# Altium schematic symbol library IC.SchLib: 69 symbols
Pins are listed as number, name and electrical type; pins without a type are passive.

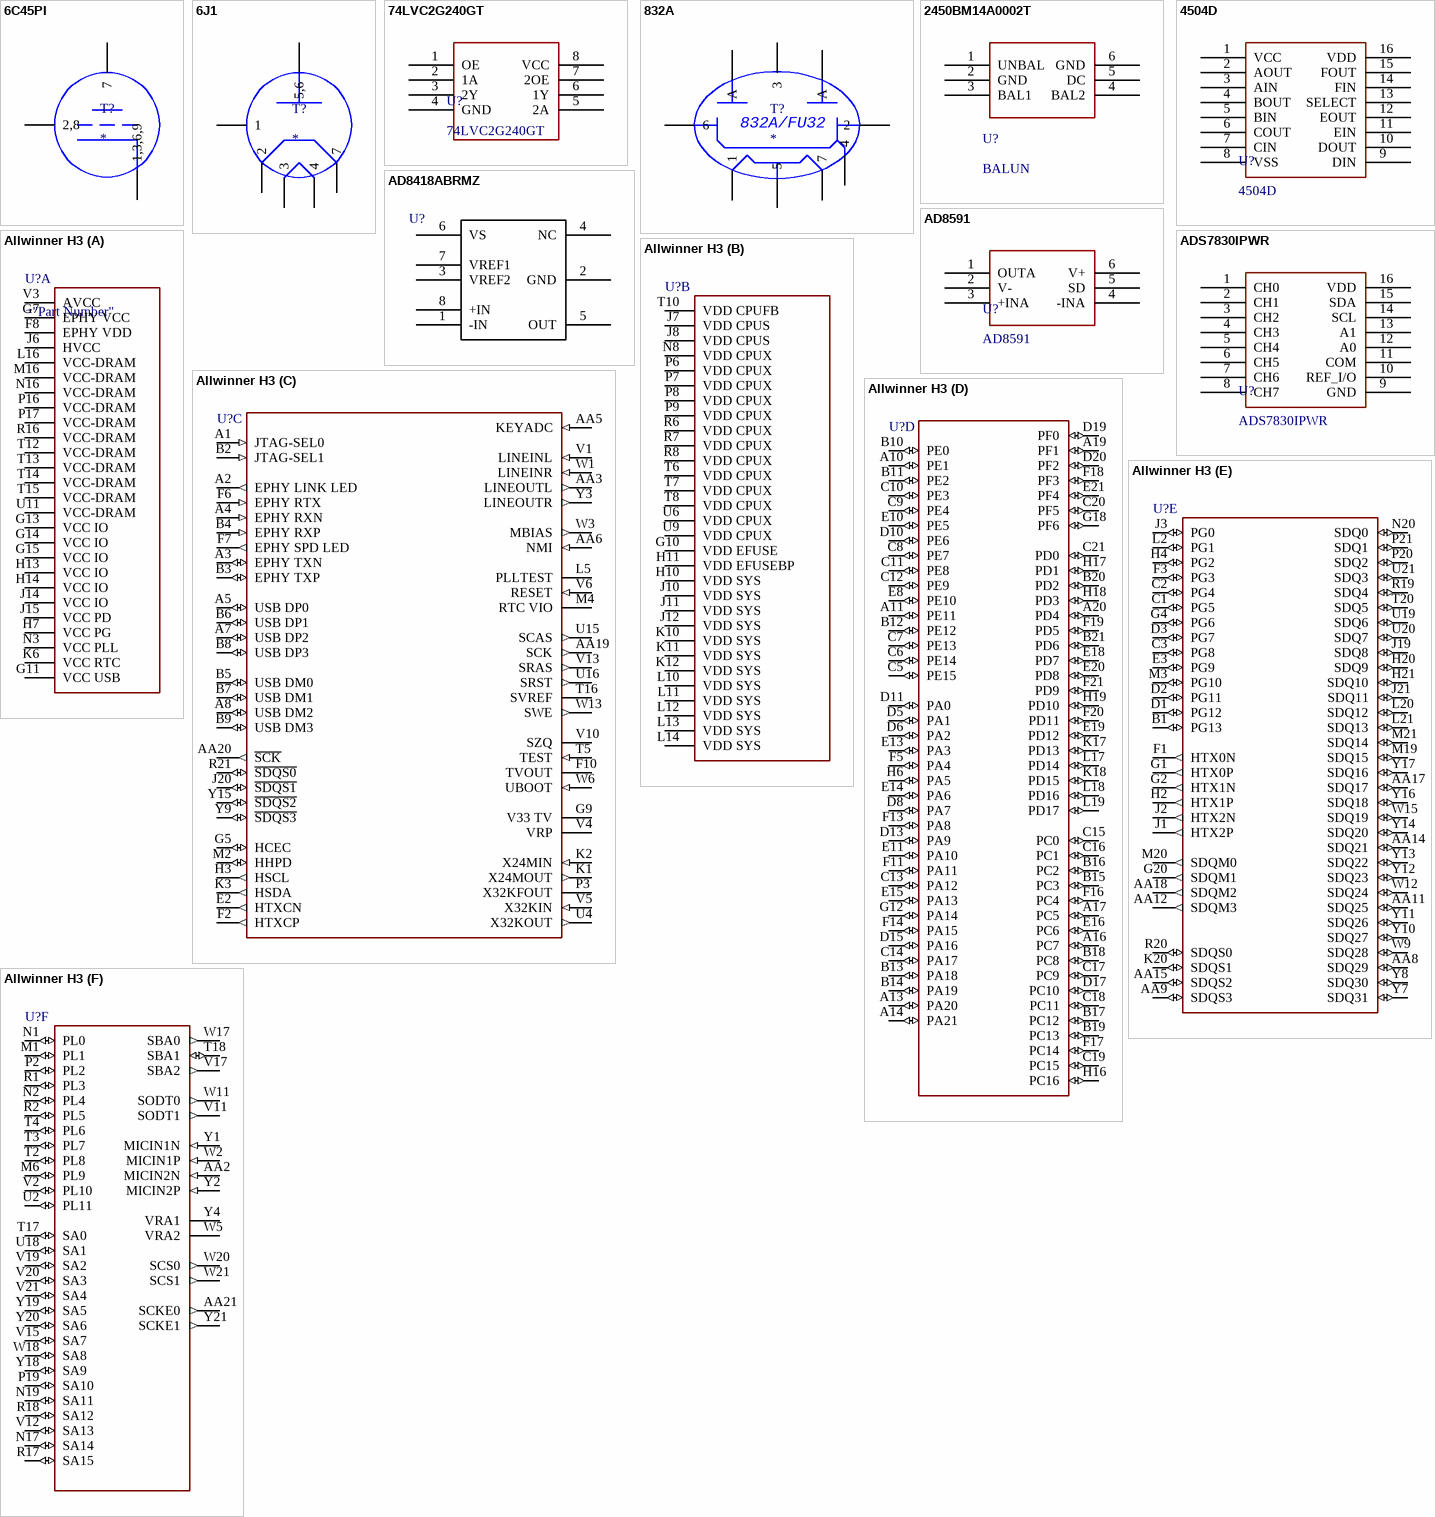
[diagram p0: symbols 6C45PI to Allwinner H3]

## 6C45PI
designator T?
pins: 1 1,3,6,9, 2 2,8, 3 hidden, 6 hidden, 7, 8 hidden, 9 hidden

## 6J1
designator T?
footprint 6J1
pins: 1, 2, 3, 4, 5 5,6, 6 hidden, 7

## 74LVC2G240GT
designator U?
footprint 74LVC2G240GT
pins: 1 OE, 2 1A, 3 2Y, 4 GND, 5 2A, 6 1Y, 7 2OE, 8 VCC

## 832A
designator T?
footprint 832A/FU32
pins: 1, 2, 3, 4, 5, 6, 7, A, A
text: 832A/FU32

## 2450BM14A0002T
designator U?, comment BALUN
BALUN FILTER  2.4G
footprint 2450BM14A0002T (BALUN FILTER)
pins: 1 UNBAL, 2 GND, 3 BAL1, 4 BAL2, 5 DC, 6 GND

## 4504D
designator U?
footprint SOP_E150_16
footprint TSSOP_E170_P0.65_16
pins: 1 VCC, 2 AOUT, 3 AIN, 4 BOUT, 5 BIN, 6 COUT, 7 CIN, 8 VSS, 9 DIN, 10 DOUT, 11 EIN, 12 EOUT, 13 SELECT, 14 FIN, 15 FOUT, 16 VDD

## AD8418ABRMZ
designator U?  (value not drawn)
Analog Devices Current Sense Amplifiers; Vendor: Analog Devices Inc; Built_By: EMA_UL_Team; SourceLibrary: Analog_2015-12-15; Manufacturer_Part_Number: AD8418ABRMZ; Copyright: Copyright (C) 2018 Accelerated Designs. All rights reserved; RefDes: RefDes; Type: DEV
footprint AD8418
pins: 1 -IN, 2 GND, 3 VREF2, 4 NC, 5 OUT, 6 VS, 7 VREF1, 8 +IN

## AD8591
designator U?
footprint SOT23-6
pins: 1 OUTA, 2 V-, 3 +INA, 4 -INA, 5 SD, 6 V+

## ADS7830IPWR
designator U?
AD
footprint TSSOP_E170_P0.65_16
pins: 1 CH0, 2 CH1, 3 CH2, 4 CH3, 5 CH4, 6 CH5, 7 CH6, 8 CH7, 9 GND, 10 REF_I/O, 11 COM, 12 A0, 13 A1, 14 SCL, 15 SDA, 16 VDD

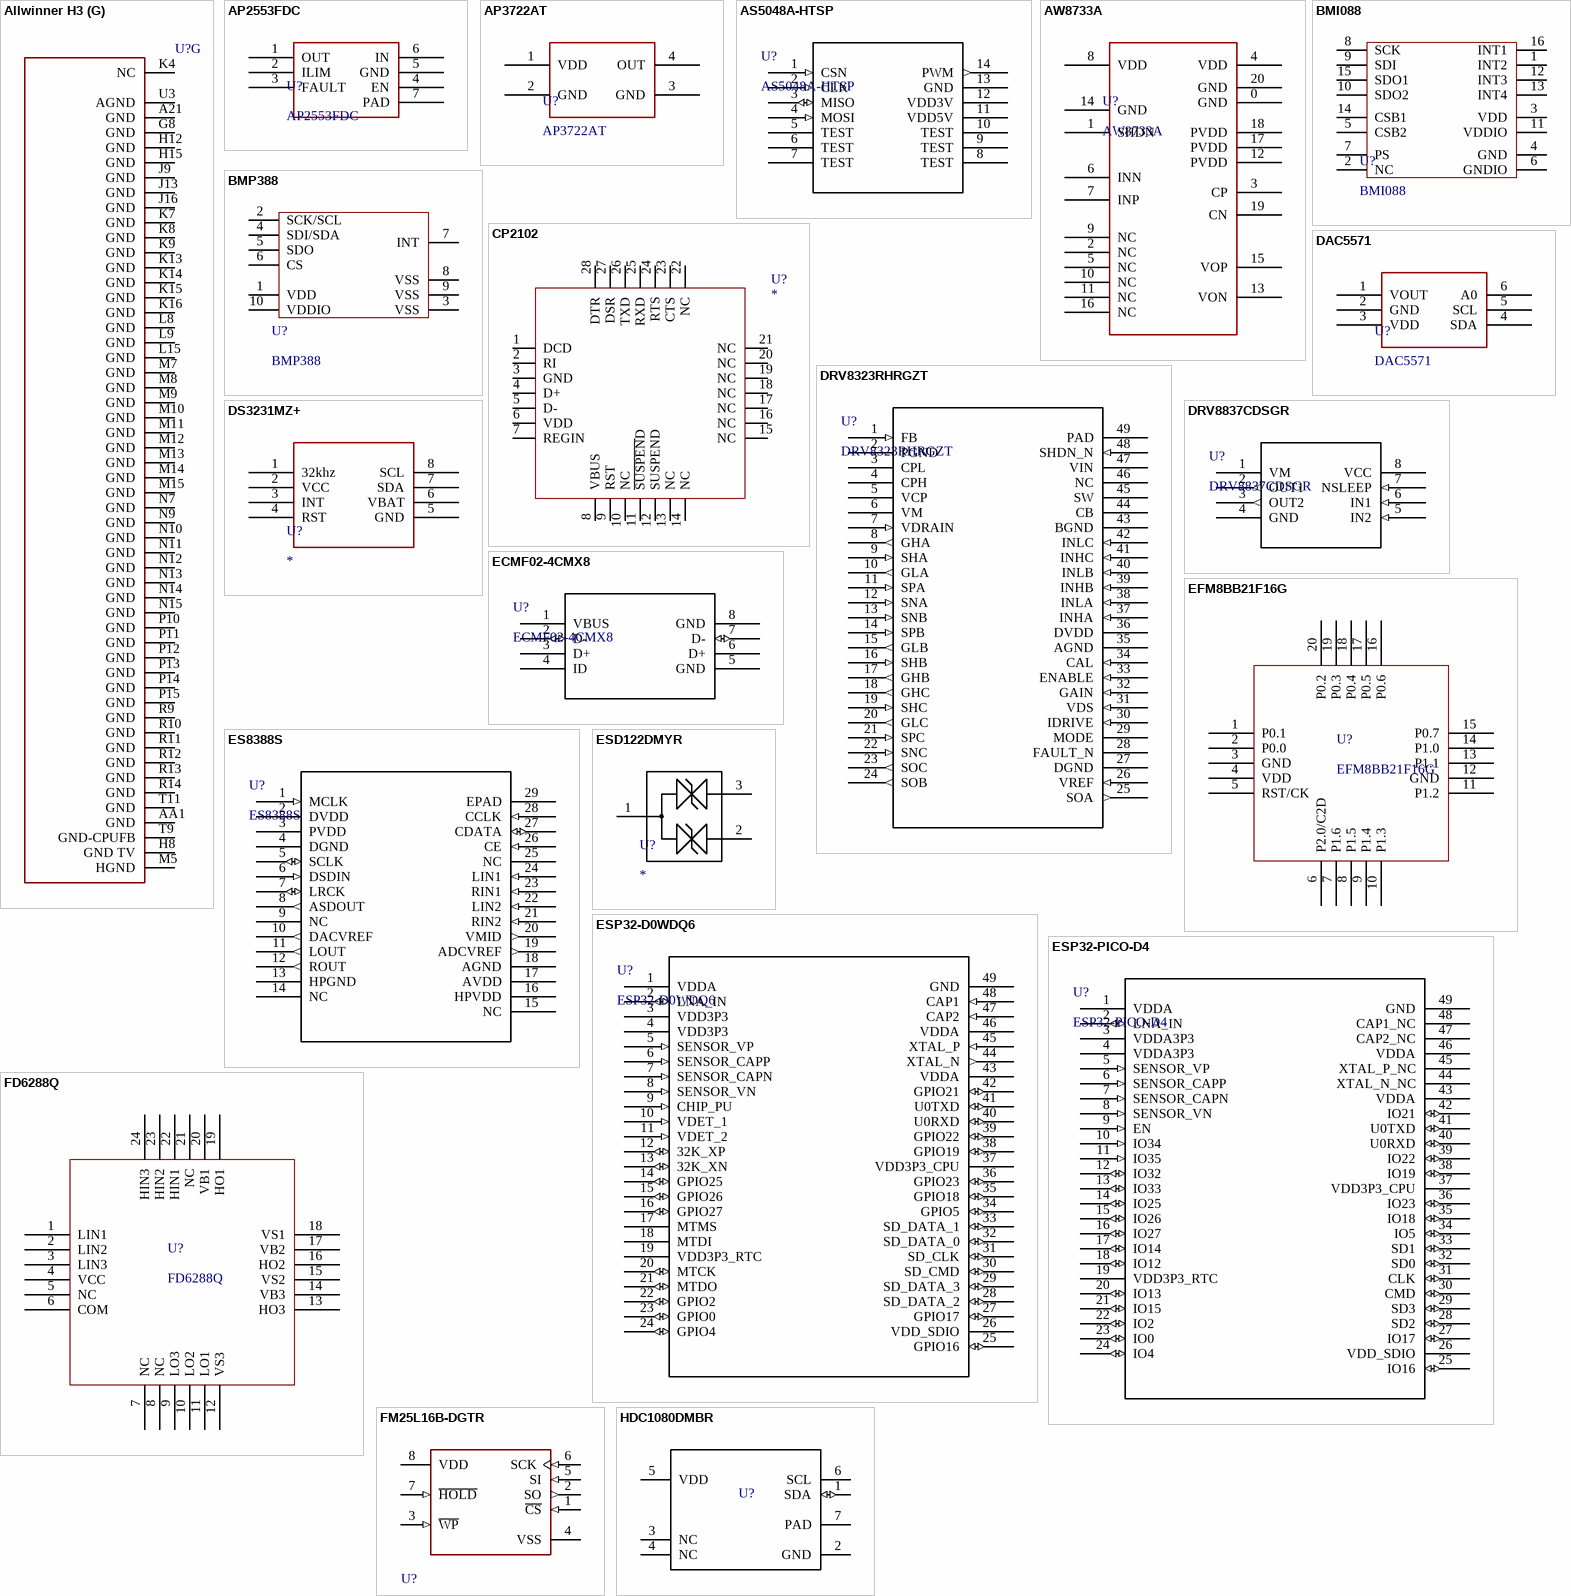
[diagram p1: symbols Allwinner H3 to HDC1080DMBR]

## Allwinner H3
designator U?  (value not drawn)
footprint Allwinner_Technology_H3_IPC_C
part A pins: F8 EPHY VDD (power), G7 EPHY VCC (power), G11 VCC USB (power), G13 VCC IO (power), G14 VCC IO (power), G15 VCC IO (power), H7 VCC PG (power), H13 VCC IO (power), H14 VCC IO (power), J6 HVCC (power), J14 VCC IO (power), J15 VCC PD (power), K6 VCC RTC (power), L16 VCC-DRAM (power), M16 VCC-DRAM (power), N3 VCC PLL (power), N16 VCC-DRAM (power), P16 VCC-DRAM (power), P17 VCC-DRAM (power), R16 VCC-DRAM (power), T12 VCC-DRAM (power), T13 VCC-DRAM (power), T14 VCC-DRAM (power), T15 VCC-DRAM (power), U11 VCC-DRAM (power), V3 AVCC (power)
part B pins: G10 VDD EFUSE (power), H10 VDD SYS (power), H11 VDD EFUSEBP (power), J7 VDD CPUS (power), J8 VDD CPUS (power), J10 VDD SYS (power), J11 VDD SYS (power), J12 VDD SYS (power), K10 VDD SYS (power), K11 VDD SYS (power), K12 VDD SYS (power), L10 VDD SYS (power), L11 VDD SYS (power), L12 VDD SYS (power), L13 VDD SYS (power), L14 VDD SYS (power), N8 VDD CPUX (power), P6 VDD CPUX (power), P7 VDD CPUX (power), P8 VDD CPUX (power), P9 VDD CPUX (power), R6 VDD CPUX (power), R7 VDD CPUX (power), R8 VDD CPUX (power), T6 VDD CPUX (power), T7 VDD CPUX (power), T8 VDD CPUX (power), T10 VDD CPUFB (power), U6 VDD CPUX (power), U9 VDD CPUX (power)
part C pins: A1 JTAG-SEL0 (in), A2 EPHY LINK LED (out), A3 EPHY TXN (io), A4 EPHY RXN (in), A5 USB DP0 (io), A7 USB DP2 (io), A8 USB DM2 (io), AA3 LINEOUTL (out), AA5 KEYADC (in), AA6 NMI (in), AA19 SCK (out), AA20 ~{SCK} (out), B2 JTAG-SEL1 (in), B3 EPHY TXP (io), B4 EPHY RXP (in), B5 USB DM0 (io), B6 USB DP1 (io), B7 USB DM1 (io), B8 USB DP3 (io), B9 USB DM3 (io), E2 HTXCN (out), F2 HTXCP (out), F6 EPHY RTX (in), F7 EPHY SPD LED (out), F10 TVOUT, G5 HCEC (io), G9 V33 TV (power), H3 HSCL (out), J20 ~{SDQS1} (io), K1 X24MOUT (out), K2 X24MIN (in), K3 HSDA (out), L5 PLLTEST, M2 HHPD (io), M4 RTC VIO (power), P3 X32KFOUT (oc), R21 ~{SDQS0} (io), T5 TEST (in), T16 SVREF (power), U4 X32KOUT (out), U15 SCAS (out), U16 SRST (out), V1 LINEINL (in), V4 VRP (power), V5 X32KIN (in), V6 RESET (in), V10 SZQ, V13 SRAS (out), W1 LINEINR (in), W3 MBIAS (out), W6 UBOOT (in), W13 SWE (out), Y3 LINEOUTR (out), Y9 ~{SDQS3} (io), Y15 ~{SDQS2} (io)
part D pins: A10 PE1 (io), A11 PE11 (io), A13 PA20 (io), A14 PA21 (io), A16 PC7 (io), A17 PC5 (io), A19 PF1 (io), A20 PD4 (io), B10 PE0 (io), B11 PE2 (io), B12 PE12 (io), B13 PA18 (io), B14 PA19 (io), B15 PC3 (io), B16 PC2 (io), B17 PC12 (io), B18 PC8 (io), B19 PC13 (io), B20 PD2 (io), B21 PD6 (io), C5 PE15 (io), C6 PE14 (io), C7 PE13 (io), C8 PE7 (io), C9 PE4 (io), C10 PE3 (io), C11 PE8 (io), C12 PE9 (io), C13 PA12 (io), C14 PA17 (io), C15 PC0 (io), C16 PC1 (io), C17 PC9 (io), C18 PC11 (io), C19 PC15 (io), C20 PF5 (io), C21 PD0 (io), D5 PA1 (io), D6 PA2 (io), D8 PA7 (io), D10 PE6 (io), D11 PA0 (io), D13 PA9 (io), D15 PA16 (io), D17 PC10 (io), D19 PF0 (io), D20 PF2 (io), E8 PE10 (io), E10 PE5 (io), E11 PA10 (io), E13 PA3 (io), E14 PA6 (io), E15 PA13 (io), E16 PC6 (io), E18 PD7 (io), E19 PD12 (io), E20 PD8 (io), E21 PF4 (io), F5 PA4 (io), F11 PA11 (io), F13 PA8 (io), F14 PA15 (io), F16 PC4 (io), F17 PC14 (io), F18 PF3 (io), F19 PD5 (io), F20 PD11 (io), F21 PD9 (io), G12 PA14 (io), G18 PF6 (io), H6 PA5 (io), H16 PC16 (io), H17 PD1 (io), H18 PD3 (io), H19 PD10 (io), K17 PD13 (io), K18 PD15 (io), L17 PD14 (io), L18 PD16 (io), L19 PD17 (io)
part E pins: AA8 SDQ29 (io), AA9 SDQS3 (io), AA11 SDQ25 (io), AA12 SDQM3 (out), AA14 SDQ21 (io), AA15 SDQS2 (io), AA17 SDQ17 (io), AA18 SDQM2 (out), B1 PG13 (io), C1 PG5 (io), C2 PG4 (io), C3 PG8 (io), D1 PG12 (io), D2 PG11 (io), D3 PG7 (io), E3 PG9 (io), F1 HTX0N (out), F3 PG3 (io), G1 HTX0P (out), G2 HTX1N (out), G4 PG6 (io), G20 SDQM1 (out), H2 HTX1P (out), H4 PG2 (io), H20 SDQ9 (io), H21 SDQ10 (io), J1 HTX2P (out), J2 HTX2N (out), J3 PG0 (io), J19 SDQ8 (io), J21 SDQ11 (io), K20 SDQS1 (io), L2 PG1 (io), L20 SDQ12 (io), L21 SDQ13 (io), M3 PG10 (io), M19 SDQ15 (io), M20 SDQM0 (out), M21 SDQ14 (io), N20 SDQ0 (io), P20 SDQ2 (io), P21 SDQ1 (io), R19 SDQ4 (io), R20 SDQS0 (io), T20 SDQ5 (io), U19 SDQ6 (io), U20 SDQ7 (io), U21 SDQ3 (io), W9 SDQ28 (io), W12 SDQ24 (io), W15 SDQ19 (io), Y7 SDQ31 (io), Y8 SDQ30 (io), Y10 SDQ27 (io), Y11 SDQ26 (io), Y12 SDQ23 (io), Y13 SDQ22 (io), Y14 SDQ20 (io), Y16 SDQ18 (io), Y17 SDQ16 (io)
part F pins: AA2 MICIN2N (in), AA21 SCKE0 (out), M1 PL1 (io), M6 PL9 (io), N1 PL0 (io), N2 PL4 (io), N17 SA14 (io), N19 SA11 (io), P2 PL2 (io), P19 SA10 (io), R1 PL3 (io), R2 PL5 (io), R17 SA15 (io), R18 SA12 (io), T2 PL8 (io), T3 PL7 (io), T4 PL6 (io), T17 SA0 (io), T18 SBA1 (io), U2 PL11 (io), U18 SA1 (io), V2 PL10 (io), V11 SODT1 (out), V12 SA13 (io), V15 SA7 (io), V17 SBA2 (out), V19 SA2 (io), V20 SA3 (io), V21 SA4 (io), W2 MICIN1P (in), W5 VRA2 (power), W11 SODT0 (out), W17 SBA0 (out), W18 SA8 (io), W20 SCS0 (out), W21 SCS1 (out), Y1 MICIN1N (in), Y2 MICIN2P (in), Y4 VRA1 (power), Y18 SA9 (io), Y19 SA5 (io), Y20 SA6 (io), Y21 SCKE1 (out)
part G pins: A21 GND (power), AA1 GND (power), G8 GND (power), H8 GND TV (power), H12 GND (power), H15 GND (power), J9 GND (power), J13 GND (power), J16 GND (power), K4 NC, K7 GND (power), K8 GND (power), K9 GND (power), K13 GND (power), K14 GND (power), K15 GND (power), K16 GND (power), L8 GND (power), L9 GND (power), L15 GND (power), M5 HGND (power), M7 GND (power), M8 GND (power), M9 GND (power), M10 GND (power), M11 GND (power), M12 GND (power), M13 GND (power), M14 GND (power), M15 GND (power), N7 GND (power), N9 GND (power), N10 GND (power), N11 GND (power), N12 GND (power), N13 GND (power), N14 GND (power), N15 GND (power), P10 GND (power), P11 GND (power), P12 GND (power), P13 GND (power), P14 GND (power), P15 GND (power), R9 GND (power), R10 GND (power), R11 GND (power), R12 GND (power), R13 GND (power), R14 GND (power), T9 GND-CPUFB (power), T11 GND (power), U3 AGND (power)

## AP2553FDC
designator U?
footprint AP2553FDC (DFN2*2)
pins: 1 OUT, 2 ILIM, 3 FAULT, 4 EN, 5 GND, 6 IN, 7 PAD

## AP3722AT
designator U?
MEMS microphone
footprint AP3722AT
pins: 1 VDD, 2 GND, 3 GND, 4 OUT

## AS5048A-HTSP
designator U?
No Description Available; Mfr_Name: AMS; Copyright: Copyright (C) 2021 Ultra Librarian. All rights reserved.; Manufacturer_Part_Number: AS5048A-HTSP; RefDes: RefDes; Type: DEV
footprint TSSOP_E170_P0.65_14
pins: 1 CSN (in), 2 CLK (in), 3 MISO (io), 4 MOSI (in), 5 TEST, 6 TEST, 7 TEST, 8 TEST, 9 TEST, 10 TEST, 11 VDD5V (power), 12 VDD3V (power), 13 GND, 14 PWM (out)

## AW8733A
designator U?
footprint QFN_P0.4_20
pins: 0 GND, 1 SHDN, 2 NC, 3 CP, 4 VDD, 5 NC, 6 INN, 7 INP, 8 VDD, 9 NC, 10 NC, 11 NC, 12 PVDD, 13 VON, 14 GND, 15 VOP, 16 NC, 17 PVDD, 18 PVDD, 19 CN, 20 GND

## BMI088
designator U?
IMU
footprint BMI088
pins: 1 INT2, 2 NC, 3 VDD, 4 GND, 5 CSB2, 6 GNDIO, 7 PS, 8 SCK, 9 SDI, 10 SDO2, 11 VDDIO, 12 INT3, 13 INT4, 14 CSB1, 15 SDO1, 16 INT1

## BMP388
designator U?
BARO
footprint BMP388
pins: 1 VDD, 2 SCK/SCL, 3 VSS, 4 SDI/SDA, 5 SDO, 6 CS, 7 INT, 8 VSS, 9 VSS, 10 VDDIO

## CP2102
designator U?
footprint CP2102
pins: 1 DCD, 2 RI, 3 GND, 4 D+, 5 D-, 6 VDD, 7 REGIN, 8 VBUS, 9 RST, 10 NC, 11 ~{SUSPEN}D, 12 SUSPEND, 13 NC, 14 NC, 15 NC, 16 NC, 17 NC, 18 NC, 19 NC, 20 NC, 21 NC, 22 NC, 23 CTS, 24 RTS, 25 RXD, 26 TXD, 27 DSR, 28 DTR

## DAC5571
designator U?
footprint SOT23-6
pins: 1 VOUT, 2 GND, 3 VDD, 4 SDA, 5 SCL, 6 A0

## DRV8323RHRGZT
designator U?
No Description Available; Vendor: Texas Instruments; Built_By: EMA_Jessica; SourceLibrary: TI_2019-03-25_3; Manufacturer_Part_Number: DRV8323RHRGZT; Copyright: Copyright (C) 2018 Accelerated Designs. All rights reserved; RefDes: RefDes; Type: DEV
footprint DRV8323RH
pins: 1 FB (in), 2 PGND (power), 3 CPL, 4 CPH, 5 VCP (power), 6 VM (power), 7 VDRAIN (in), 8 GHA (out), 9 SHA (in), 10 GLA (out), 11 SPA (in), 12 SNA (in), 13 SNB (in), 14 SPB (in), 15 GLB (out), 16 SHB (in), 17 GHB (out), 18 GHC (out), 19 SHC (in), 20 GLC (out), 21 SPC (in), 22 SNC (in), 23 SOC (out), 24 SOB (out), 25 SOA (out), 26 VREF (in), 27 DGND (power), 28 FAULT_N (oc), 29 MODE, 30 IDRIVE (in), 31 VDS (in), 32 GAIN (in), 33 ENABLE (in), 34 CAL (in), 35 AGND (power), 36 DVDD (power), 37 INHA (in), 38 INLA (in), 39 INHB (in), 40 INLB (in), 41 INHC (in), 42 INLC (in), 43 BGND (power), 44 CB (power), 45 SW (power), 46 NC, 47 VIN (power), 48 SHDN_N (in), 49 PAD (power)

## DRV8837CDSGR
designator U?
No Description Available; Vendor: Texas Instruments; Built_By: EMA_Jessica; SourceLibrary: TI_2019-03-25_3; Manufacturer_Part_Number: DRV8837CDSGR; Copyright: Copyright (C) 2018 Accelerated Designs. All rights reserved; RefDes: RefDes; Type: DEV
footprint DRV8837CDSGR
pins: 1 VM (power), 2 OUT1 (out), 3 OUT2 (out), 4 GND (power), 5 IN2 (in), 6 IN1 (in), 7 NSLEEP (in), 8 VCC (power)

## DS3231MZ+
designator U?
4 Pin RTC
footprint SOP_E150_8
pins: 1 32khz, 2 VCC, 3 INT, 4 RST, 5 GND, 6 VBAT, 7 SDA, 8 SCL
1 alternate drawing of the same symbol

## ECMF02-4CMX8
designator U?
No Description Available; SourceLibrary: Update_database_2020-10-15; Built_By: EMA_Cory; Vendor: STMicroelectronics; Copyright: Copyright (C) 2018 Accelerated Designs. All rights reserved; Manufacturer_Part_Number: ECMF02-4CMX8; Datasheet: https://www.st.com/content/ccc/resource/technical/document/datasheet/group3/1c/93/cf/72/85/cf/4d/d6/DM00039389/files/DM00039389.pdf/jcr:content/translations/en.DM00039389.pdf; RefDes: RefDes; Type: DEV
footprint ECMF02-4CMX8
pins: 1 VBUS (power), 2 D- (io), 3 D+, 4 ID, 5 GND, 6 D+, 7 D- (io), 8 GND

## EFM8BB21F16G
designator U?
MCU Blheli
footprint EFM8BB21F16G (QFN20)
pins: 1 P0.1, 2 P0.0, 3 GND, 4 VDD, 5 RST/CK, 6 P2.0/C2D, 7 P1.6, 8 P1.5, 9 P1.4, 10 P1.3, 11 P1.2, 12 GND, 13 P1.1, 14 P1.0, 15 P0.7, 16 P0.6, 17 P0.5, 18 P0.4, 19 P0.3, 20 P0.2

## ES8388S
designator U?
No Description Available; Mfr_Name: Everest Semiconductor; Copyright: Copyright (C) 2021 Ultra Librarian. All rights reserved.; Manufacturer_Part_Number: ES8388S; RefDes: RefDes; Type: DEV
footprint ES8388S
pins: 1 MCLK (in), 2 DVDD (power), 3 PVDD (power), 4 DGND, 5 SCLK (io), 6 DSDIN (in), 7 LRCK (io), 8 ASDOUT (out), 9 NC, 10 DACVREF (out), 11 LOUT (out), 12 ROUT (out), 13 HPGND, 14 NC, 15 NC, 16 HPVDD (power), 17 AVDD (power), 18 AGND, 19 ADCVREF (out), 20 VMID (out), 21 RIN2 (in), 22 LIN2 (in), 23 RIN1 (in), 24 LIN1 (in), 25 NC, 26 CE (in), 27 CDATA (io), 28 CCLK (in), 29 EPAD

## ESD122DMYR
designator U?
PartNumber: ESD122DMYR; Manufacturer: Texas Instruments; RefDes: RefDes; TYPE: TYPE; Value: Value
footprint ESD122
pins: 1 GND, 2 IO2, 3 IO1

## ESP32-D0WDQ6
designator U?
No Description Available; Mfr_Name: Espressif Systems; Copyright: Copyright (C) 2021 Ultra Librarian. All rights reserved.; Manufacturer_Part_Number: ESP32-D0WDQ6; RefDes: RefDes; Type: DEV
footprint ESP32-D0WDQ6
pins: 1 VDDA (power), 2 LNA_IN (io), 3 VDD3P3 (power), 4 VDD3P3 (power), 5 SENSOR_VP (in), 6 SENSOR_CAPP (in), 7 SENSOR_CAPN (in), 8 SENSOR_VN (in), 9 CHIP_PU (in), 10 VDET_1 (in), 11 VDET_2 (in), 12 32K_XP (io), 13 32K_XN (io), 14 GPIO25 (io), 15 GPIO26 (io), 16 GPIO27 (io), 17 MTMS, 18 MTDI, 19 VDD3P3_RTC (power), 20 MTCK (io), 21 MTDO (io), 22 GPIO2 (io), 23 GPIO0 (io), 24 GPIO4 (io), 25 GPIO16 (io), 26 VDD_SDIO (power), 27 GPIO17 (io), 28 SD_DATA_2 (io), 29 SD_DATA_3 (io), 30 SD_CMD (io), 31 SD_CLK (io), 32 SD_DATA_0 (io), 33 SD_DATA_1 (io), 34 GPIO5 (io), 35 GPIO18 (io), 36 GPIO23 (io), 37 VDD3P3_CPU (power), 38 GPIO19 (io), 39 GPIO22 (io), 40 U0RXD (io), 41 U0TXD (io), 42 GPIO21 (io), 43 VDDA (power), 44 XTAL_N (out), 45 XTAL_P (in), 46 VDDA (power), 47 CAP2 (in), 48 CAP1 (in), 49 GND

## ESP32-PICO-D4
designator U?
No Description Available; Mfr_Name: Espressif Systems; Copyright: Copyright (C) 2021 Ultra Librarian. All rights reserved.; Manufacturer_Part_Number: ESP32-PICO-D4; RefDes: RefDes; Type: DEV
footprint ESP32-PICO-D4
pins: 1 VDDA (power), 2 LNA_IN (io), 3 VDDA3P3 (power), 4 VDDA3P3 (power), 5 SENSOR_VP (in), 6 SENSOR_CAPP (in), 7 SENSOR_CAPN (in), 8 SENSOR_VN (in), 9 EN (in), 10 IO34 (in), 11 IO35 (in), 12 IO32 (io), 13 IO33 (io), 14 IO25 (io), 15 IO26 (io), 16 IO27 (io), 17 IO14 (io), 18 IO12 (io), 19 VDD3P3_RTC (power), 20 IO13 (io), 21 IO15 (io), 22 IO2 (io), 23 IO0 (io), 24 IO4 (io), 25 IO16 (io), 26 VDD_SDIO (power), 27 IO17 (io), 28 SD2 (io), 29 SD3 (io), 30 CMD (io), 31 CLK (io), 32 SD0 (io), 33 SD1 (io), 34 IO5 (io), 35 IO18 (io), 36 IO23 (io), 37 VDD3P3_CPU (power), 38 IO19 (io), 39 IO22 (io), 40 U0RXD (io), 41 U0TXD (io), 42 IO21 (io), 43 VDDA (power), 44 XTAL_N_NC, 45 XTAL_P_NC, 46 VDDA (power), 47 CAP2_NC, 48 CAP1_NC, 49 GND

## FD6288Q
designator U?
250V 3-Phase HVIC
footprint QFN_P0.5_24
pins: 1 LIN1, 2 LIN2, 3 LIN3, 4 VCC, 5 NC, 6 COM, 7 NC, 8 NC, 9 LO3, 10 LO2, 11 LO1, 12 VS3, 13 HO3, 14 VB3, 15 VS2, 16 HO2, 17 VB2, 18 VS1, 19 HO1, 20 VB1, 21 NC, 22 HIN1, 23 HIN2, 24 HIN3

## FM25L16B-DGTR
designator U?  (value not drawn)
footprint FM25L16B-DGTR
pins: 1 ~{CS} (in), 2 SO (out), 3 ~{WP} (in), 4 VSS (power), 5 SI (in), 6 SCK (in), 7 ~{HOLD} (in), 8 VDD (power)

## HDC1080DMBR
designator U?  (value not drawn)
Temperature Sensor; PartNumber: HDC1080DMBR; Alternate_PartNumber: HDC1080DMBT; Manufacturer: Texas Instruments; CompType: IC; PIN_COUNT: 7; Application_BuildNumber: *; PackageReference: DMB0006A; MountType: SMT; RefDes: RefDes; TYPE: TYPE; Value: Value
footprint HDC1080
pins: 1 SDA (io), 2 GND (power), 3 NC, 4 NC, 5 VDD (power), 6 SCL (oc), 7 PAD (power)

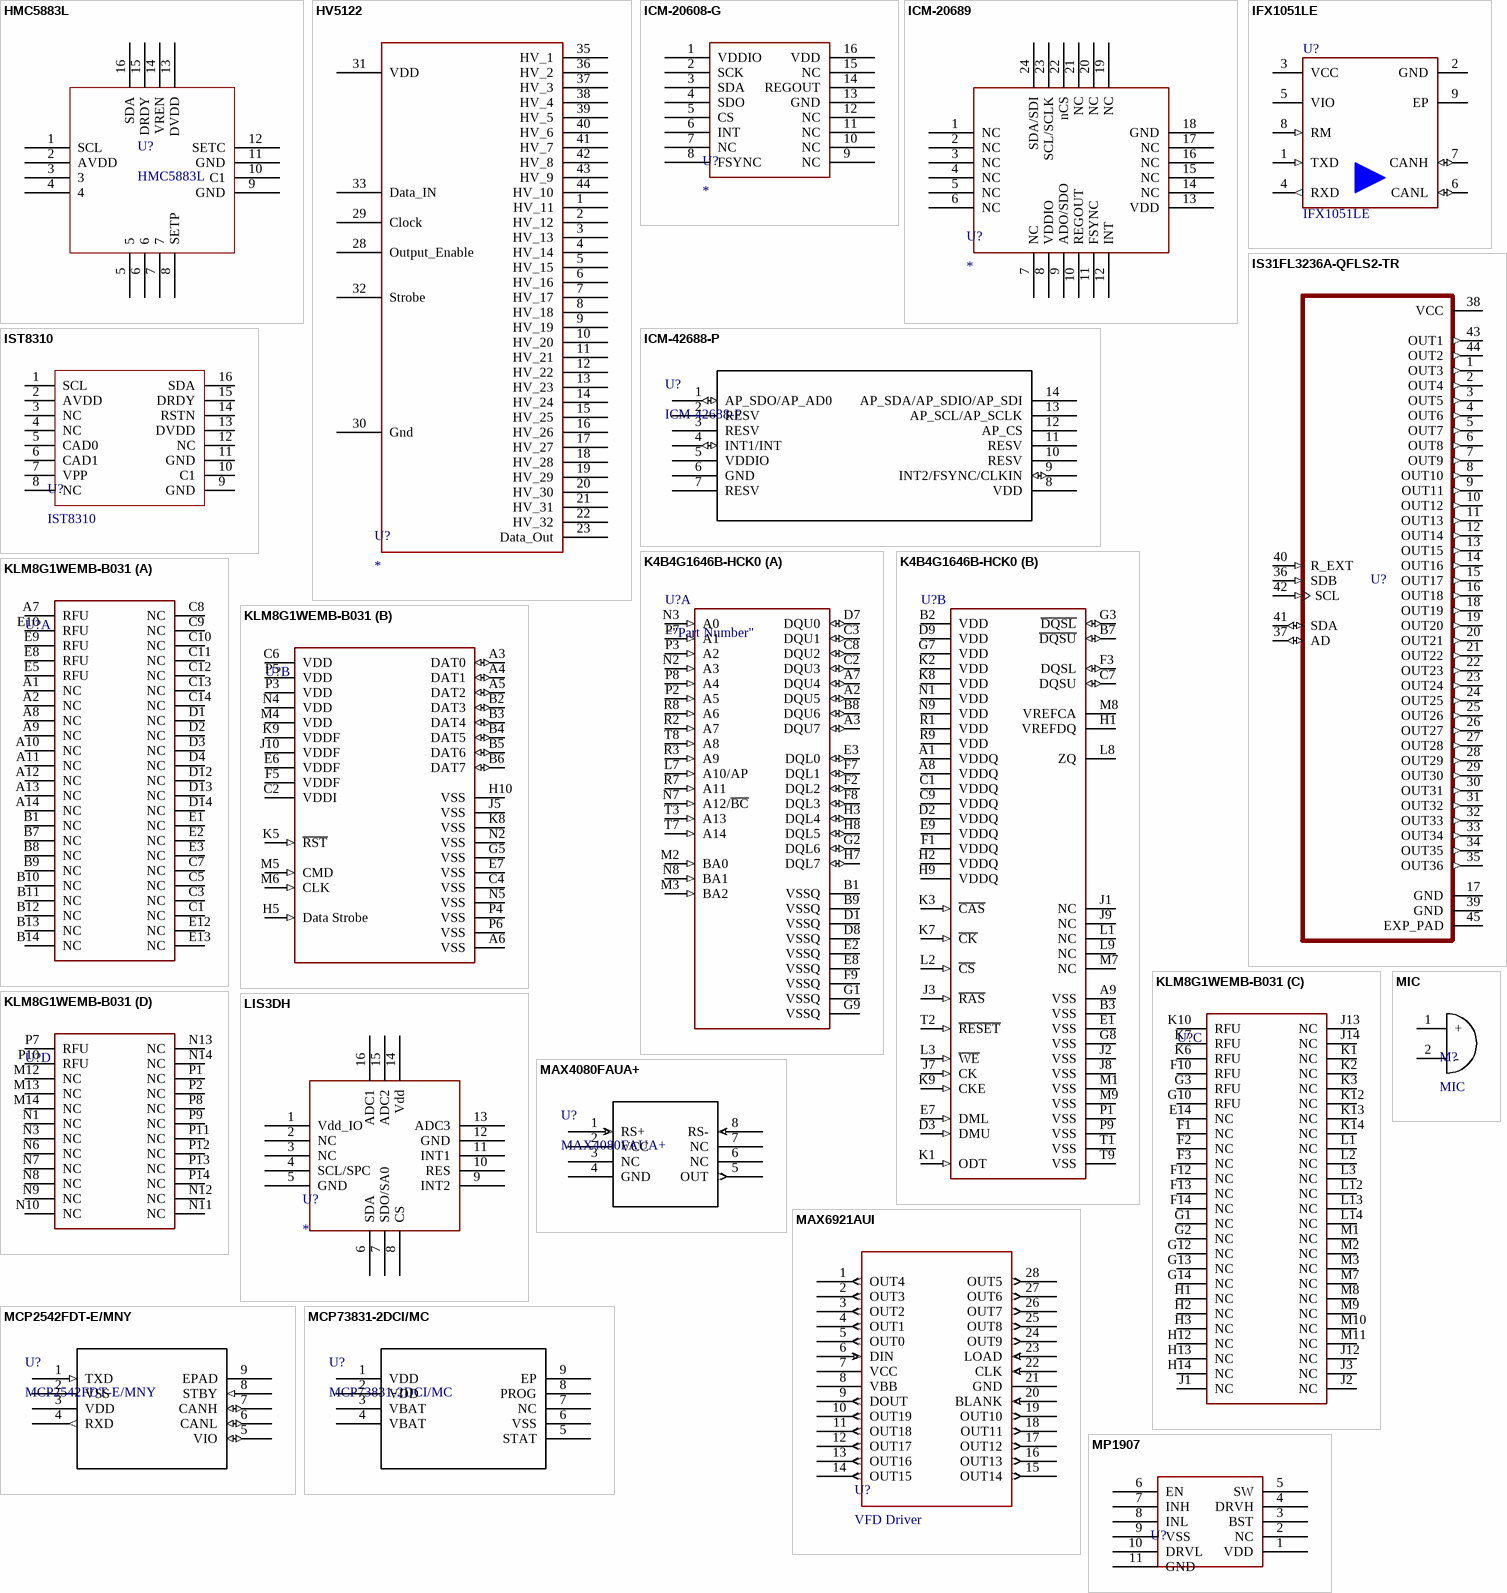
[diagram p2: symbols HMC5883L to MP1907]

## HMC5883L
designator U?
footprint QFN_P0.5_16
pins: 1 SCL, 2 AVDD, 3, 4, 5, 6, 7, 8 SETP, 9 GND, 10 C1, 11 GND, 12 SETC, 13 DVDD, 14 VREN, 15 DRDY, 16 SDA

## HV5122
designator U?
footprint LQFP_P0.8_44
pins: 1 HV_11, 2 HV_12, 3 HV_13, 4 HV_14, 5 HV_15, 6 HV_16, 7 HV_17, 8 HV_18, 9 HV_19, 10 HV_20, 11 HV_21, 12 HV_22, 13 HV_23, 14 HV_24, 15 HV_25, 16 HV_26, 17 HV_27, 18 HV_28, 19 HV_29, 20 HV_30, 21 HV_31, 22 HV_32, 23 Data_Out, 24 NC hidden, 25 NC hidden, 26 NC hidden, 27 NC hidden, 28 Output_Enable, 29 Clock, 30 Gnd, 31 VDD, 32 Strobe, 33 Data_IN, 34 NC hidden, 35 HV_1, 36 HV_2, 37 HV_3, 38 HV_4, 39 HV_5, 40 HV_6, 41 HV_7, 42 HV_8, 43 HV_9, 44 HV_10

## ICM-20608-G
designator U?
footprint ICM20689 (LGA-16L)
pins: 1 VDDIO, 2 SCK, 3 SDA, 4 SDO, 5 CS, 6 INT, 7 NC, 8 FSYNC, 9 NC, 10 NC, 11 NC, 12 NC, 13 GND, 14 REGOUT, 15 NC, 16 VDD

## ICM-20689
designator U?
footprint QFN_P0.5_24
pins: 1 NC, 2 NC, 3 NC, 4 NC, 5 NC, 6 NC, 7 NC, 8 VDDIO, 9 ADO/SDO, 10 REGOUT, 11 FSYNC, 12 INT, 13 VDD, 14 NC, 15 NC, 16 NC, 17 NC, 18 GND, 19 NC, 20 NC, 21 NC, 22 nCS, 23 SCL/SCLK, 24 SDA/SDI

## ICM-42688-P
designator U?
No Description Available; Vendor: InvenSense; Built_By: EMA_Cory; SourceLibrary: InvenSense_2020-06-19; Datasheet: http://invensense.tdk.com/wp-content/uploads/2020/03/DS-000292-ICM-42605-v1.4.pdf; Manufacturer_Part_Number: ICM-42688-P; Copyright: Copyright (C) 2018 Accelerated Designs. All rights reserved; RefDes: RefDes; Type: DEV
footprint ICM42688
pins: 1 AP_SDO/AP_AD0 (io), 2 RESV, 3 RESV, 4 INT1/INT (io), 5 VDDIO (power), 6 GND, 7 RESV, 8 VDD (power), 9 INT2/FSYNC/CLKIN (io), 10 RESV, 11 RESV, 12 AP_CS, 13 AP_SCL/AP_SCLK, 14 AP_SDA/AP_SDIO/AP_SDI

## IFX1051LE
designator U?
High Speed CAN-Transceiver; Manufacture: Infineon Technologies; ManufacturerPartNumber: IFX1051LE; PackageReference: PG-TSON-8
footprint IFX1051
pins: 1 TXD (in) "Transmit Data Input", 2 GND (power) "Ground", 3 VCC (power) "Transmitter Supply Voltage", 4 RXD (out) "Receive Data Output", 5 VIO (power) "Digital Supply Voltage", 6 CANL (io) "CAN Bus Low Level I/O", 7 CANH (io) "CAN Bus High Level I/O", 8 RM (in) "Receive-only Mode Input", 9 EP (power) "Connect to PCB heat sink area"

## IS31FL3236A-QFLS2-TR
designator U?  (value not drawn)
LED Driver IC 36 Output Linear IÂ²C Dimming 38mA 44-QFN (5x5); MP: IS31FL3236A-QFLS2-TR; MF: ISSI, Integrated; SnapEDA_Link: https://www.snapeda.com/parts/IS31FL3236A-QFLS2-TR/ISSI,%20Integrated%20Silicon%20Solution%20Inc/view-part/920650/?ref=snap; Package: QFN-44 ISSI; Value: *; BuyPart: https://www.snapeda.com/parts/IS31FL3236A-QFLS2-TR/ISSI,%20Integrated%20Silicon%20Solution%20Inc/view-part/920650/?ref=eda
footprint IS31FL3236A-QFLS2
pins: 1 OUT3 (out), 2 OUT4 (out), 3 OUT5 (out), 4 OUT6 (out), 5 OUT7 (out), 6 OUT8 (out), 7 OUT9 (out), 8 OUT10 (out), 9 OUT11 (out), 10 OUT12 (out), 11 OUT13 (out), 12 OUT14 (out), 13 OUT15 (out), 14 OUT16 (out), 15 OUT17 (out), 16 OUT18 (out), 17 GND (power), 18 OUT19 (out), 19 OUT20 (out), 20 OUT21 (out), 21 OUT22 (out), 22 OUT23 (out), 23 OUT24 (out), 24 OUT25 (out), 25 OUT26 (out), 26 OUT27 (out), 27 OUT28 (out), 28 OUT29 (out), 29 OUT30 (out), 30 OUT31 (out), 31 OUT32 (out), 32 OUT33 (out), 33 OUT34 (out), 34 OUT35 (out), 35 OUT36 (out), 36 SDB (in), 37 AD (io), 38 VCC (power), 39 GND (power), 40 R_EXT (in), 41 SDA (io), 42 SCL (in), 43 OUT1 (out), 44 OUT2 (out), 45 EXP_PAD (power)

## IST8310
designator U?
Sensor Magnetometer; Type: QFN16 P0.5
footprint QFN_P0.5_16
pins: 1 SCL, 2 AVDD, 3 NC, 4 NC, 5 CAD0, 6 CAD1, 7 VPP, 8 NC, 9 GND, 10 C1, 11 GND, 12 NC, 13 DVDD, 14 RSTN, 15 DRDY, 16 SDA

## K4B4G1646B-HCK0
designator U?  (value not drawn)
footprint Samsung_96FBGA_IPC_C
part A pins: A2 DQU5 (io), A3 DQU7 (io), A7 DQU4 (io), B1 VSSQ (power), B8 DQU6 (io), B9 VSSQ (power), C2 DQU3 (io), C3 DQU1 (io), C8 DQU2 (io), D1 VSSQ (power), D7 DQU0 (io), D8 VSSQ (power), E2 VSSQ (power), E3 DQL0 (io), E8 VSSQ (power), F2 DQL2 (io), F7 DQL1 (io), F8 DQL3 (io), F9 VSSQ (power), G1 VSSQ (power), G2 DQL6 (io), G9 VSSQ (power), H3 DQL4 (io), H7 DQL7 (io), H8 DQL5 (io), L7 A10/AP (in), M2 BA0 (in), M3 BA2 (in), N2 A3 (in), N3 A0 (in), N7 A12/~{BC} (in), N8 BA1 (in), P2 A5 (in), P3 A2 (in), P7 A1 (in), P8 A4 (in), R2 A7 (in), R3 A9 (in), R7 A11 (in), R8 A6 (in), T3 A13 (in), T7 A14 (in), T8 A8 (in)
part B pins: A1 VDDQ (power), A8 VDDQ (power), A9 VSS (power), B2 VDD (power), B3 VSS (power), B7 ~{DQSU} (io), C1 VDDQ (power), C7 DQSU (io), C9 VDDQ (power), D2 VDDQ (power), D3 DMU (in), D9 VDD (power), E1 VSS (power), E7 DML (in), E9 VDDQ (power), F1 VDDQ (power), F3 DQSL (io), G3 ~{DQSL} (io), G7 VDD (power), G8 VSS (power), H1 VREFDQ (power), H2 VDDQ (power), H9 VDDQ (power), J1 NC, J2 VSS (power), J3 ~{RAS} (in), J7 CK (in), J8 VSS (power), J9 NC, K1 ODT (in), K2 VDD (power), K3 ~{CAS} (in), K7 ~{CK} (in), K8 VDD (power), K9 CKE (in), L1 NC, L2 ~{CS} (in), L3 ~{WE} (in), L8 ZQ (power), L9 NC, M1 VSS (power), M7 NC, M8 VREFCA (power), M9 VSS (power), N1 VDD (power), N9 VDD (power), P1 VSS (power), P9 VSS (power), R1 VDD (power), R9 VDD (power), T1 VSS (power), T2 ~{RESET} (in), T9 VSS (power)

## KLM8G1WEMB-B031
designator U?  (value not drawn)
footprint Samsung_0_IPC_C
part A pins: A1 NC, A2 NC, A7 RFU, A8 NC, A9 NC, A10 NC, A11 NC, A12 NC, A13 NC, A14 NC, B1 NC, B7 NC, B8 NC, B9 NC, B10 NC, B11 NC, B12 NC, B13 NC, B14 NC, C1 NC, C3 NC, C5 NC, C7 NC, C8 NC, C9 NC, C10 NC, C11 NC, C12 NC, C13 NC, C14 NC, D1 NC, D2 NC, D3 NC, D4 NC, D12 NC, D13 NC, D14 NC, E1 NC, E2 NC, E3 NC, E5 RFU, E8 RFU, E9 RFU, E10 RFU, E12 NC, E13 NC
part B pins: A3 DAT0 (io), A4 DAT1 (io), A5 DAT2 (io), A6 VSS (power), B2 DAT3 (io), B3 DAT4 (io), B4 DAT5 (io), B5 DAT6 (io), B6 DAT7 (io), C2 VDDI (power), C4 VSS (power), C6 VDD (power), E6 VDDF (power), E7 VSS (power), F5 VDDF (power), G5 VSS (power), H5 Data Strobe (in), H10 VSS (power), J5 VSS (power), J10 VDDF (power), K5 ~{RST} (in), K8 VSS (power), K9 VDDF (power), M4 VDD (power), M5 CMD (in), M6 CLK (in), N2 VSS (power), N4 VDD (power), N5 VSS (power), P3 VDD (power), P4 VSS (power), P5 VDD (power), P6 VSS (power)
part C pins: E14 NC, F1 NC, F2 NC, F3 NC, F10 RFU, F12 NC, F13 NC, F14 NC, G1 NC, G2 NC, G3 RFU, G10 RFU, G12 NC, G13 NC, G14 NC, H1 NC, H2 NC, H3 NC, H12 NC, H13 NC, H14 NC, J1 NC, J2 NC, J3 NC, J12 NC, J13 NC, J14 NC, K1 NC, K2 NC, K3 NC, K6 RFU, K7 RFU, K10 RFU, K12 NC, K13 NC, K14 NC, L1 NC, L2 NC, L3 NC, L12 NC, L13 NC, L14 NC, M1 NC, M2 NC, M3 NC, M7 NC, M8 NC, M9 NC, M10 NC, M11 NC
part D pins: M12 NC, M13 NC, M14 NC, N1 NC, N3 NC, N6 NC, N7 NC, N8 NC, N9 NC, N10 NC, N11 NC, N12 NC, N13 NC, N14 NC, P1 NC, P2 NC, P7 RFU, P8 NC, P9 NC, P10 RFU, P11 NC, P12 NC, P13 NC, P14 NC

## LIS3DH
designator U?
IMU
footprint ICM20689 (LGA-16L)
pins: 1 Vdd_IO, 2 NC, 3 NC, 4 SCL/SPC, 5 GND, 6 SDA, 7 SDO/SA0, 8 CS, 9 INT2, 10 RES, 11 INT1, 12 GND, 13 ADC3, 14 Vdd, 15 ADC2, 16 ADC1

## MAX4080FAUA+
designator U?
No Description Available; Vendor: Maxim Integrated Products; Built_By: EMA_UL_Team; Manufacturer_Part_Number: MAX4080FAUA+; Copyright: Copyright (C) 2018 Accelerated Designs. All rights reserved; RefDes: RefDes; Type: DEV
footprint MAX4080FAUA+
pins: 1 RS+ (in), 2 VCC (power), 3 NC, 4 GND (power), 5 OUT (out), 6 NC, 7 NC, 8 RS- (in)

## MAX6921AUI
designator U?, comment VFD Driver
footprint TSSOP_E170_P0.65_28
pins: 1 OUT4 (out), 2 OUT3 (out), 3 OUT2 (out), 4 OUT1 (out), 5 OUT0 (out), 6 DIN (in), 7 VCC (power), 8 VBB (power), 9 DOUT (out), 10 OUT19 (out), 11 OUT18 (out), 12 OUT17 (out), 13 OUT16 (out), 14 OUT15 (out), 15 OUT14 (out), 16 OUT13 (out), 17 OUT12 (out), 18 OUT11 (out), 19 OUT10 (out), 20 BLANK (in), 21 GND (power), 22 CLK (in), 23 LOAD (in), 24 OUT9 (out), 25 OUT8 (out), 26 OUT7 (out), 27 OUT6 (out), 28 OUT5 (out)

## MCP2542FDT-E/MNY
designator U?
No Description Available; Vendor: Microchip; Built_By: EMA_UL_Team; SourceLibrary: Microchip_2017-06-21; Manufacturer_Part_Number: MCP2542FDT-E/MNY; Copyright: Copyright (C) 2018 Accelerated Designs. All rights reserved; RefDes: RefDes; Type: DEV
footprint MCP2542FDT-E/MNY
footprint MCP2542FDT-3*3DFN
pins: 1 TXD (in), 2 VSS (power), 3 VDD (power), 4 RXD (out), 5 VIO (io), 6 CANL (io), 7 CANH (io), 8 STBY (in), 9 EPAD

## MCP73831-2DCI/MC
designator U?
Battery Charger IC; Vendor: Microchip; Built_By: EMA_Jessica; SourceLibrary: Microchip_2019-08-23_10; Manufacturer_Part_Number: MCP73831-2DCI/MC; Copyright: Copyright (C) 2018 Accelerated Designs. All rights reserved; RefDes: RefDes; Type: DEV
footprint MCP73831
pins: 1 VDD, 2 VDD, 3 VBAT, 4 VBAT, 5 STAT, 6 VSS, 7 NC, 8 PROG, 9 EP

## MIC
designator M?
footprint MIC
pins: 1 +, 2 -

## MP1907
designator U?, comment Half-bridge Gate Driver  (value not drawn)
footprint MP1907
pins: 1 VDD, 2 NC, 3 BST, 4 DRVH, 5 SW, 6 EN, 7 INH, 8 INL, 9 VSS, 10 DRVL, 11 GND

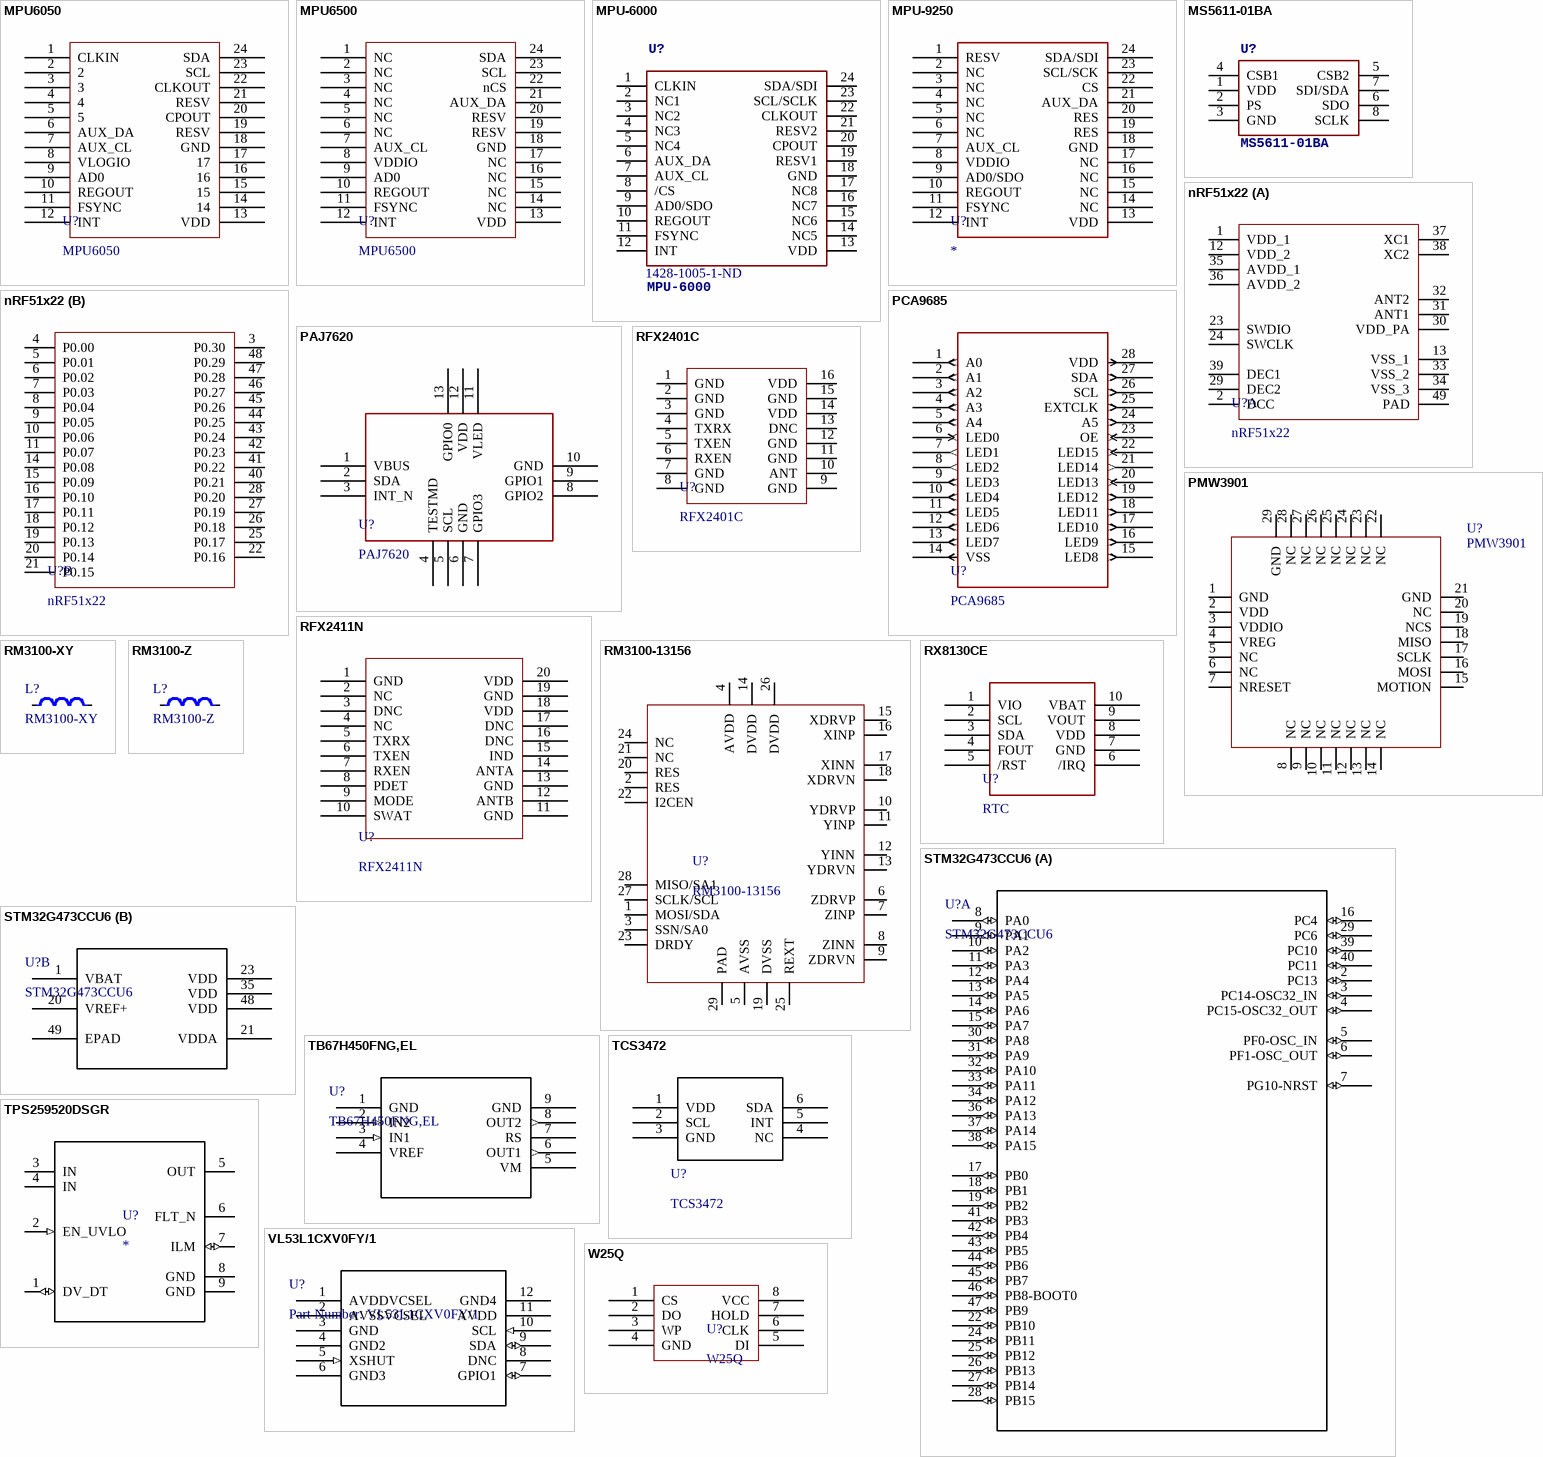
[diagram p3: symbols MPU6050 to W25Q]

## MPU6050
designator U?
footprint MPU6000 (QFN24)
pins: 1 CLKIN, 2, 3, 4, 5, 6 AUX_DA, 7 AUX_CL, 8 VLOGIO, 9 AD0, 10 REGOUT, 11 FSYNC, 12 INT, 13 VDD, 14, 15, 16, 17, 18 GND, 19 RESV, 20 CPOUT, 21 RESV, 22 CLKOUT, 23 SCL, 24 SDA

## MPU6500
designator U?
footprint MPU6000 (QFN24)
pins: 1 NC, 2 NC, 3 NC, 4 NC, 5 NC, 6 NC, 7 AUX_CL, 8 VDDIO, 9 AD0, 10 REGOUT, 11 FSYNC, 12 INT, 13 VDD, 14 NC, 15 NC, 16 NC, 17 NC, 18 GND, 19 RESV, 20 RESV, 21 AUX_DA, 22 nCS, 23 SCL, 24 SDA

## MPU-6000
designator U?  Supplier Part Number 1: 1428-1005-1-ND
3 Axis Accel, 3Axis Gyro; 3DR_PARTNO: ECM0834; DATASHEET: http://invensense.com/mems/gyro/documents/PS-MPU-6000A-00_v1.0.pdf; LINK: http://invensense.com/mems/gyro/mpu6000.html; MFGPN: MPU-6000; Supplier 1: Digi-Key
footprint MPU6000
pins: 1 CLKIN, 2 NC1, 3 NC2, 4 NC3, 5 NC4, 6 AUX_DA, 7 AUX_CL, 8 /CS, 9 AD0/SDO, 10 REGOUT, 11 FSYNC, 12 INT, 13 VDD, 14 NC5, 15 NC6, 16 NC7, 17 NC8, 18 GND, 19 RESV1, 20 CPOUT, 21 RESV2, 22 CLKOUT, 23 SCL/SCLK, 24 SDA/SDI

## MPU-9250
designator U?
footprint MPU6000 (QFN24)
pins: 1 RESV, 2 NC, 3 NC, 4 NC, 5 NC, 6 NC, 7 AUX_CL, 8 VDDIO, 9 AD0/SDO, 10 REGOUT, 11 FSYNC, 12 INT, 13 VDD, 14 NC, 15 NC, 16 NC, 17 NC, 18 GND, 19 RES, 20 RES, 21 AUX_DA, 22 CS, 23 SCL/SCK, 24 SDA/SDI

## MS5611-01BA
designator U?
Board, Digital pressure sensor I2C/SPI; 3DR_PARTNO: ECM0835; DATASHEET: http://www.meas-spec.com/downloads/MS5611-01BA01.pdf; LINK: http://www.meas-spec.com/product/t_product.aspx?id=8503#; MFGPN: MS5611-01BA; PARTNO: MS5611-01BA; Supplier 1: Mouser; Supplier Part Number 1: 824-MS561101BA03-50
footprint MS5611-01BA
pins: 1 VDD, 2 PS, 3 GND, 4 CSB1, 5 CSB2, 6 SDO, 7 SDI/SDA, 8 SCLK

## nRF51x22
designator U?
MCU; Value: 32MHz; Type: QFN48 P0.4
footprint QFN_P0.4_48
part A pins: 1 VDD_1, 2 DCC, 12 VDD_2, 13 VSS_1, 23 SWDIO, 24 SWCLK, 29 DEC2, 30 VDD_PA, 31 ANT1, 32 ANT2, 33 VSS_2, 34 VSS_3, 35 AVDD_1, 36 AVDD_2, 37 XC1, 38 XC2, 39 DEC1, 49 PAD
part B pins: 3 P0.30, 4 P0.00, 5 P0.01, 6 P0.02, 7 P0.03, 8 P0.04, 9 P0.05, 10 P0.06, 11 P0.07, 14 P0.08, 15 P0.09, 16 P0.10, 17 P0.11, 18 P0.12, 19 P0.13, 20 P0.14, 21 P0.15, 22 P0.16, 25 P0.17, 26 P0.18, 27 P0.19, 28 P0.20, 40 P0.21, 41 P0.22, 42 P0.23, 43 P0.24, 44 P0.25, 45 P0.26, 46 P0.27, 47 P0.28, 48 P0.29

## PAJ7620
designator U?
footprint PAJ7620
pins: 1 VBUS, 2 SDA, 3 INT_N, 4 TESTMD, 5 SCL, 6 GND, 7 GPIO3, 8 GPIO2, 9 GPIO1, 10 GND, 11 VLED, 12 VDD, 13 GPIO0

## PCA9685
designator U?
footprint TSSOP_E170_P0.65_28
pins: 1 A0 (out), 2 A1 (out), 3 A2 (out), 4 A3 (out), 5 A4 (out), 6 LED0 (out), 7 LED1 (out), 8 LED2 (out), 9 LED3 (out), 10 LED4 (out), 11 LED5 (out), 12 LED6 (out), 13 LED7 (out), 14 VSS, 15 LED8 (out), 16 LED9 (out), 17 LED10 (out), 18 LED11 (out), 19 LED12 (out), 20 LED13 (out), 21 LED14 (out), 22 LED15 (out), 23 OE (out), 24 A5 (out), 25 EXTCLK (out), 26 SCL (out), 27 SDA (out), 28 VDD (power)

## PMW3901
designator U?
footprint PMW3901
pins: 1 GND, 2 VDD, 3 VDDIO, 4 VREG, 5 NC, 6 NC, 7 NRESET, 8 NC, 9 NC, 10 NC, 11 NC, 12 NC, 13 NC, 14 NC, 15 MOTION, 16 MOSI, 17 SCLK, 18 MISO, 19 NCS, 20 NC, 21 GND, 22 NC, 23 NC, 24 NC, 25 NC, 26 NC, 27 NC, 28 NC, 29 GND

## RFX2401C
designator U?
Radio PA/LNA; Type: QFN16 P0.5
footprint QFN_P0.5_16
pins: 1 GND, 2 GND, 3 GND, 4 TXRX, 5 TXEN, 6 RXEN, 7 GND, 8 GND, 9 GND, 10 ANT, 11 GND, 12 GND, 13 DNC, 14 VDD, 15 GND, 16 VDD

## RFX2411N
designator U?
2.4G PA
footprint QFN_P0.4_20
pins: 1 GND, 2 NC, 3 DNC, 4 NC, 5 TXRX, 6 TXEN, 7 RXEN, 8 PDET, 9 MODE, 10 SWAT, 11 GND, 12 ANTB, 13 GND, 14 ANTA, 15 IND, 16 DNC, 17 DNC, 18 VDD, 19 GND, 20 VDD

## RM3100-13156
designator U?
footprint RM3100-13156
pins: 1 MOSI/SDA, 2 RES, 3 SSN/SA0, 4 AVDD, 5 AVSS, 6 ZDRVP, 7 ZINP, 8 ZINN, 9 ZDRVN, 10 YDRVP, 11 YINP, 12 YINN, 13 YDRVN, 14 DVDD, 15 XDRVP, 16 XINP, 17 XINN, 18 XDRVN, 19 DVSS, 20 RES, 21 NC, 22 I2CEN, 23 DRDY, 24 NC, 25 REXT, 26 DVDD, 27 SCLK/SCL, 28 MISO/SA1, 29 PAD

## RM3100-XY
designator L?
footprint RM3100-XY
pins: 1, 2

## RM3100-Z
designator L?
footprint RM3100-Z
pins: 1, 2

## RX8130CE
designator U?, comment RTC
footprint RX8130CE (RTC)
pins: 1 VIO, 2 SCL, 3 SDA, 4 FOUT, 5 /RST, 6 /IRQ, 7 GND, 8 VDD, 9 VOUT, 10 VBAT

## STM32G473CCU6
designator U?
No Description Available; Mfr_Name: STMicroelectronics; Copyright: Copyright (C) 2021 Ultra Librarian. All rights reserved.; Manufacturer_Part_Number: STM32G473CCU6; RefDes: RefDes; Type: DEV
footprint STM32G473CCU6
part A pins: 2 PC13 (io), 3 PC14-OSC32_IN (io), 4 PC15-OSC32_OUT (io), 5 PF0-OSC_IN (io), 6 PF1-OSC_OUT (io), 7 PG10-NRST (io), 8 PA0 (io), 9 PA1 (io), 10 PA2 (io), 11 PA3 (io), 12 PA4 (io), 13 PA5 (io), 14 PA6 (io), 15 PA7 (io), 16 PC4 (io), 17 PB0 (io), 18 PB1 (io), 19 PB2 (io), 22 PB10 (io), 24 PB11 (io), 25 PB12 (io), 26 PB13 (io), 27 PB14 (io), 28 PB15 (io), 29 PC6 (io), 30 PA8 (io), 31 PA9 (io), 32 PA10 (io), 33 PA11 (io), 34 PA12 (io), 36 PA13 (io), 37 PA14 (io), 38 PA15 (io), 39 PC10 (io), 40 PC11 (io), 41 PB3 (io), 42 PB4 (io), 43 PB5 (io), 44 PB6 (io), 45 PB7 (io), 46 PB8-BOOT0 (io), 47 PB9 (io)
part B pins: 1 VBAT (power), 20 VREF+ (power), 21 VDDA (power), 23 VDD (power), 35 VDD (power), 48 VDD (power), 49 EPAD

## TB67H450FNG,EL
designator U?
No Description Available; Mfr_Name: Toshiba Electronic Devices & Storage Co.; Copyright: Copyright (C) 2021 Ultra Librarian. All rights reserved.; Manufacturer_Part_Number: TB67H450FNG,EL; RefDes: RefDes; Type: DEV
footprint TB67H450FNG
pins: 1 GND, 2 IN2 (in), 3 IN1 (in), 4 VREF (power), 5 VM, 6 OUT1 (out), 7 RS, 8 OUT2 (out), 9 GND

## TCS3472
designator U?
Color
footprint TCS3472
pins: 1 VDD, 2 SCL, 3 GND, 4 NC, 5 INT, 6 SDA

## TPS259520DSGR
designator U?
Imported; PartNumber: TPS259520DSGR; Manufacturer: Texas Instruments; RefDes: RefDes; TYPE: TYPE; Value: Value
footprint TPS2595
pins: 1 DV_DT (io), 2 EN_UVLO (in), 3 IN (power), 4 IN (power), 5 OUT (power), 6 FLT_N (oc), 7 ILM (io), 8 GND (power), 9 GND (power)

## VL53L1CXV0FY/1
designator U?, comment Part Number: VL53L1CXV0FY/1
No Description Available; Vendor: STMicroelectronics; Built_By: EMA_Jessica; Manufacturer_Part_Number: VL53L1CXV0FY/1; Copyright: Copyright (C) 2018 Accelerated Designs. All rights reserved; RefDes: RefDes; Type: DEV; Value: Value
footprint VL53L1X
pins: 1 AVDDVCSEL (power), 2 AVSSVCSEL (power), 3 GND (power), 4 GND2 (power), 5 XSHUT (in), 6 GND3 (power), 7 GPIO1 (io), 8 DNC, 9 SDA (io), 10 SCL (in), 11 AVDD (power), 12 GND4 (power)

## W25Q
designator U?
WSON 6*5
footprint W25Q_6*5
pins: 1 CS, 2 DO, 3 WP, 4 GND, 5 DI, 6 CLK, 7 HOLD, 8 VCC

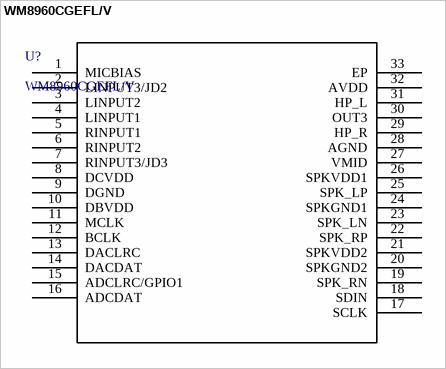
[diagram p4: symbol WM8960CGEFL/V]

## WM8960CGEFL/V
designator U?
No Description Available; Mfr_Name: Cirrus Logic; Copyright: Copyright (C) 2021 Ultra Librarian. All rights reserved.; Manufacturer_Part_Number: WM8960CGEFL/V; RefDes: RefDes; Type: DEV
footprint WM8960
pins: 1 MICBIAS, 2 LINPUT3/JD2, 3 LINPUT2, 4 LINPUT1, 5 RINPUT1, 6 RINPUT2, 7 RINPUT3/JD3, 8 DCVDD, 9 DGND, 10 DBVDD, 11 MCLK, 12 BCLK, 13 DACLRC, 14 DACDAT, 15 ADCLRC/GPIO1, 16 ADCDAT, 17 SCLK, 18 SDIN, 19 SPK_RN, 20 SPKGND2, 21 SPKVDD2, 22 SPK_RP, 23 SPK_LN, 24 SPKGND1, 25 SPK_LP, 26 SPKVDD1, 27 VMID, 28 AGND, 29 HP_R, 30 OUT3, 31 HP_L, 32 AVDD, 33 EP